# EAGLE library part HC06 (library hc06)
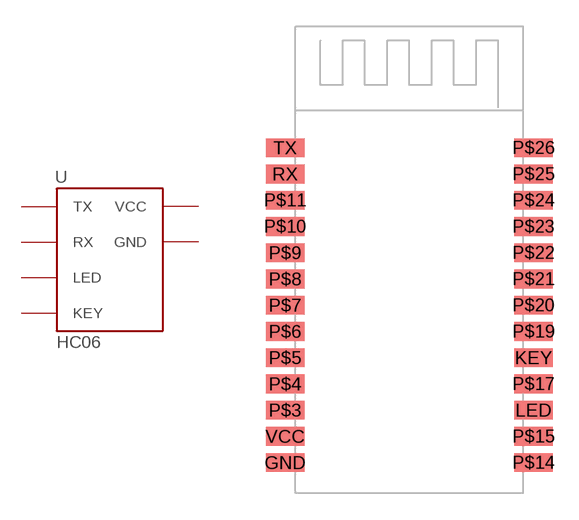
[diagram p0: symbol with the pads of HC06; footprint HC06]

Designator prefix -

## HC06  [HC06]
GND  GND  pwr
KEY  KEY  in
LED  LED  out
RX  RX
TX  TX  out
VCC  VCC  pwr

## Footprint HC06 (pad centres in mm)
smd 2.184 x 1.067: GND -7.1,-8.89; KEY 7.1,-2.89; LED 7.1,-5.89; P$3 -7.1,-5.89; P$4 -7.1,-4.39; P$5 -7.1,-2.89; P$6 -7.1,-1.39; P$7 -7.1,0.11; P$8 -7.1,1.61; P$9 -7.1,3.11; P$10 -7.1,4.61; P$11 -7.1,6.11; P$14 7.1,-8.89; P$15 7.1,-7.39; P$17 7.1,-4.39; P$19 7.1,-1.39; P$20 7.1,0.11; P$21 7.1,1.61; P$22 7.1,3.11; P$23 7.1,4.61; P$24 7.1,6.11; P$25 7.1,7.61; P$26 7.1,9.11; RX -7.1,7.61; TX -7.1,9.11; VCC -7.1,-7.39